# Altium schematic symbol library Antenna_Helical.SchLib: 1 symbol
Pins are listed as number, name and electrical type; pins without a type are passive.

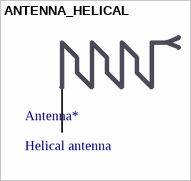
[diagram p0: symbol ANTENNA_HELICAL]

## ANTENNA_HELICAL
designator Antenna*, comment Helical antenna
footprint ANTENNA_HELICAL (868MHz Helical antenna)
pins: 0 CON